# Altium schematic symbol library 9.其他常用元件原理库.SchLib: 18 symbols
Pins are listed as number, name and electrical type; pins without a type are passive.

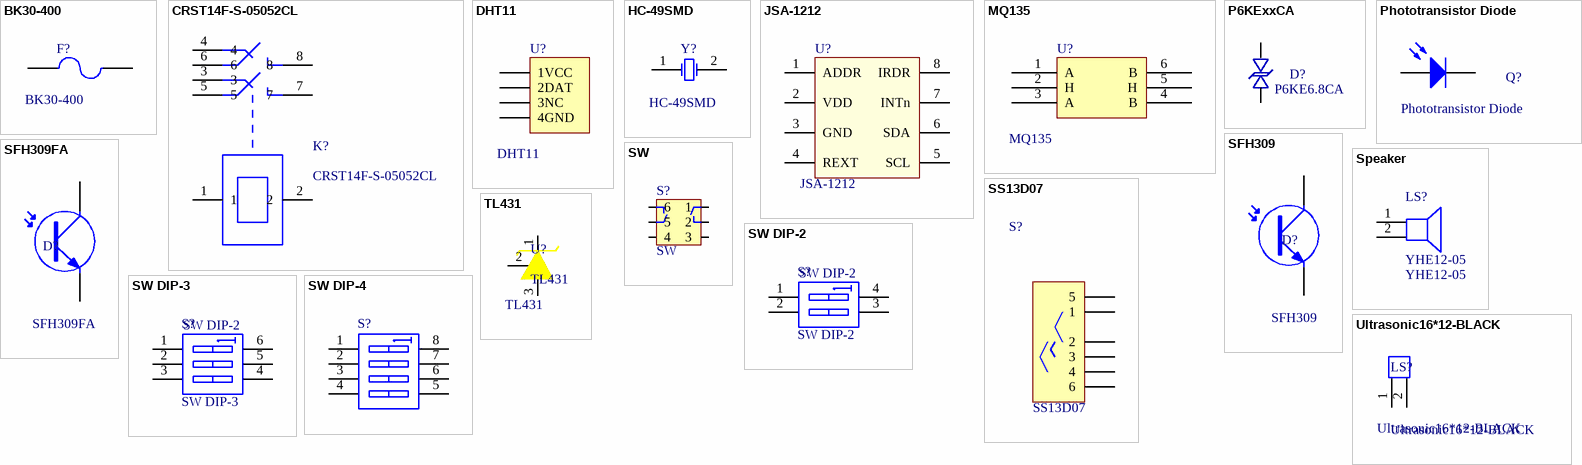
[diagram p0: symbols BK30-400 to Ultrasonic16*12-BLACK]

## BK30-400
designator F?
Fuse BK30-400; Value: BK30-400
footprint FUSE-Resettable
pins: 1, 2

## CRST14F-S-05052CL
designator K?
General-purpose relay; Value: CRST14F-S-05052CL
footprint CRST14F-S-05052CL
pins: 1, 2, 3, 4, 5, 6, 7, 8

## DHT11
designator U?
Digital temperature and humidity sensor; Value: DHT11
footprint DHT11
pins: 1 1VCC, 2 2DAT, 3 3NC, 4 4GND

## HC-49SMD
designator Y?
Crystal Oscillator; Value: HC-49SMD
footprint HC-49SMD (Footprint not found)
pins: 1 OSC1, 2 OSC2

## JSA-1212
designator U?
Ambient Light and Proximity Sensor; Value: JSA-1212
footprint JSA-1212
pins: 1 ADDR, 2 VDD, 3 GND, 4 REXT, 5 SCL, 6 SDA, 7 INTn, 8 IRDR

## MQ135
designator U?
Air quality sensor; Value: MQ135
footprint MQ135
pins: 1 A, 2 H, 3 A, 4 B, 5 H, 6 B

## P6KExxCA
designator D?, comment P6KE6.8CA
Value: P6KE6.8CA
footprint SMA DO-214AC
pins: 1, 2

## Phototransistor Diode
designator Q?
Value: Phototransistor Diode
footprint LED-3MM
pins: 1 A, 2 K

## SFH309
designator D?
Silicon NPN Phototransistor; Value: SFH309
footprint IR_SFH309
pins: 1 E, 2 C

## SFH309FA
designator D?
Silicon NPN Phototransistor; Value: SFH309FA
footprint IR_SFH309
pins: 1 C, 2 E

## Speaker
designator LS?, comment YHE12-05
Loudspeaker YHE12-05; Value: YHE12-05
footprint BUZZER
pins: 1, 2

## SS13D07
designator S?  value SS13D07
footprint SS13D07VG4
pins: 1, 2, 3, 4, 5, 6

## SW
designator S?  value SW
footprint SW7*7
pins: 1, 2, 3, 4, 5, 6

## SW DIP-2
designator S?
DIP Switch, 2 Position, SPST; Value: SW DIP-2
footprint DIP4
pins: 1 A1, 2 A2, 3 B2, 4 B1

## SW DIP-3
designator S?  value SW DIP-2
DIP Switch, 3 Position, SPST
footprint DIP6
pins: 1 A1, 2 A2, 3 A3, 4 B3, 5 B2, 6 B1

## SW DIP-4
designator S?  (value not drawn)
DIP Switch, 4 Position, SPST; Value: SW DIP-4
footprint DIP8
pins: 1 A1, 2 A2, 3 A3, 4 A4, 5 B4, 6 B3, 7 B2, 8 B1

## TL431
designator U?
Value: TL431
footprint SOT-23-3 (SOT23, 3-Leads, Body 2.9x1.3mm, Pitch 0.95mm, Lead Span 2.5mm, IPC High Density)
pins: 1, 2, 3

## Ultrasonic16*12-BLACK
designator LS?
Value: Ultrasonic16*12-BLACK
footprint Ultrasonic16*12
pins: 1, 2